# EAGLE library part HEADER-8P-2R-DIP-2_54MM (library SamacSys_Parts)
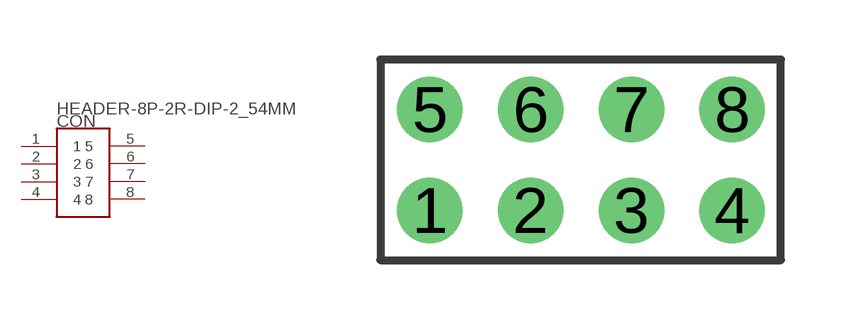
[diagram p9: symbol with the pads of HEADER-8P-2R-DIP-2_54MM; footprint HEADER-8P-2R-DIP-2_54MM]

Designator prefix CON

## HEADER-8P-2R-DIP-2_54MM  [HEADER-8P-2R-DIP-2_54MM]
1  1
2  2
3  3
4  4
5  5
6  6
7  7
8  8

## Footprint HEADER-8P-2R-DIP-2_54MM (pad centres in mm)
825433-5
drill 1.1 pad 1.65: 1 0,0; 2 2.54,0; 3 5.08,0; 4 7.62,0; 5 0,2.54; 6 2.54,2.54; 7 5.08,2.54; 8 7.62,2.54